# EAGLE library part ATMEGA165-MU (library Atmel)
8-bit AVR Microcontroller with 16K Bytes In-System Programmable Flash
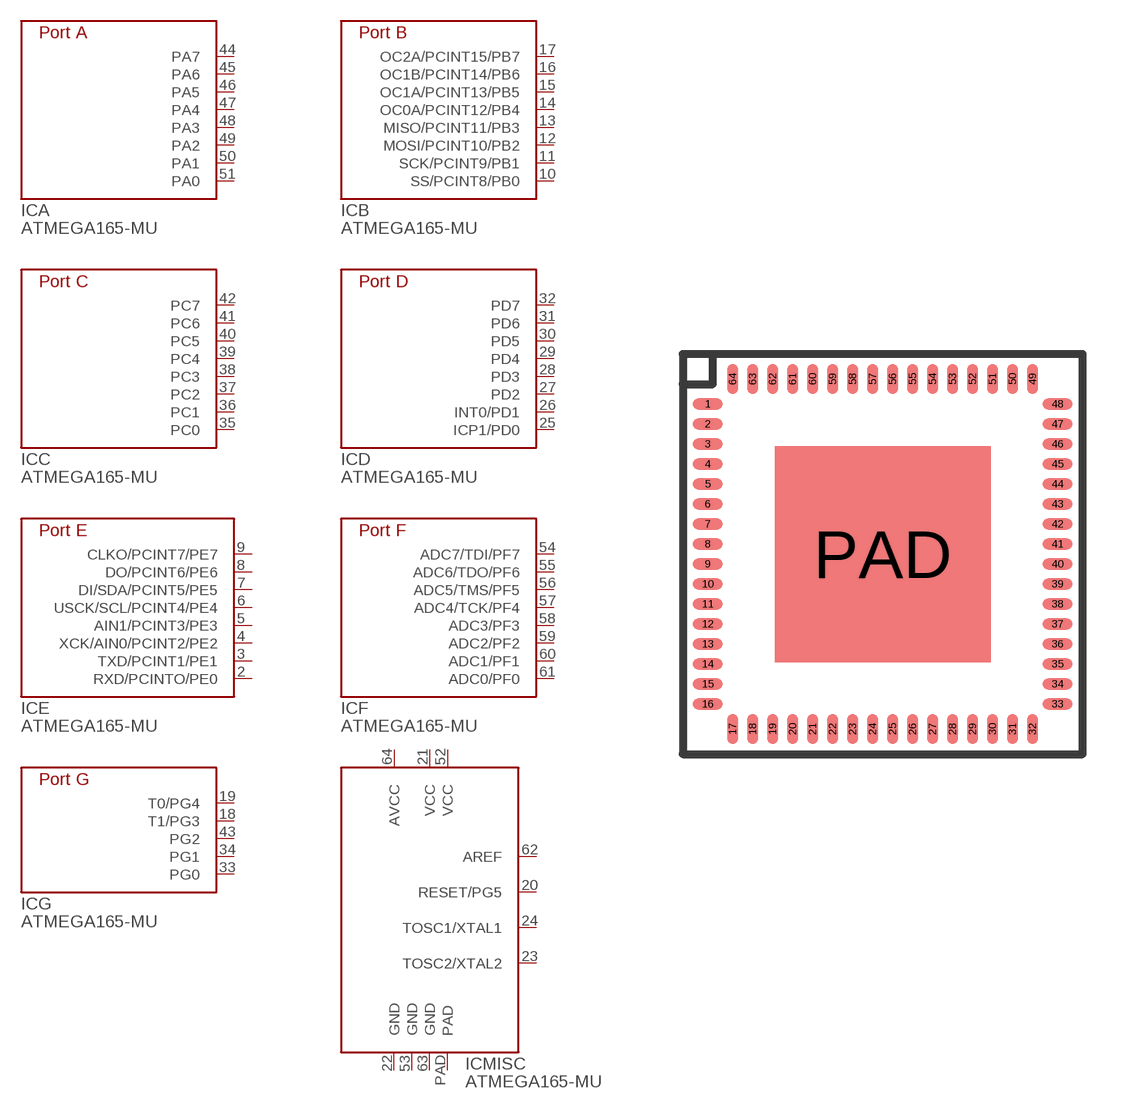
[diagram p13: symbol with the pads of MLF64-64M1; footprint MLF64-64M1]

Designator prefix IC; gates A=ATMEGA165-A B=ATMEGA165-B C=ATMEGA165-C D=ATMEGA165-D E=ATMEGA165-E F=ATMEGA165-F G=ATMEGA165-G MISC=ATMEGA165-MISC-PAD

## ATMEGA165-MU  [MLF64-64M1]
2  E:RXD/PCINTO/PE0
3  E:TXD/PCINT1/PE1
4  E:XCK/AIN0/PCINT2/PE2
5  E:AIN1/PCINT3/PE3
6  E:USCK/SCL/PCINT4/PE4
7  E:DI/SDA/PCINT5/PE5
8  E:DO/PCINT6/PE6
9  E:CLKO/PCINT7/PE7
10  B:SS/PCINT8/PB0
11  B:SCK/PCINT9/PB1
12  B:MOSI/PCINT10/PB2
13  B:MISO/PCINT11/PB3
14  B:OC0A/PCINT12/PB4
15  B:OC1A/PCINT13/PB5
16  B:OC1B/PCINT14/PB6
17  B:OC2A/PCINT15/PB7
18  G:T1/PG3
19  G:T0/PG4
20  MISC:RESET/PG5
21  MISC:VCC
22  MISC:GND
23  MISC:TOSC2/XTAL2
24  MISC:TOSC1/XTAL1
25  D:ICP1/PD0
26  D:INT0/PD1
27  D:PD2
28  D:PD3
29  D:PD4
30  D:PD5
31  D:PD6
32  D:PD7
33  G:PG0
34  G:PG1
35  C:PC0
36  C:PC1
37  C:PC2
38  C:PC3
39  C:PC4
40  C:PC5
41  C:PC6
42  C:PC7
43  G:PG2
44  A:PA7
45  A:PA6
46  A:PA5
47  A:PA4
48  A:PA3
49  A:PA2
50  A:PA1
51  A:PA0
52  MISC:VCC
53  MISC:GND
54  F:ADC7/TDI/PF7
55  F:ADC6/TDO/PF6
56  F:ADC5/TMS/PF5
57  F:ADC4/TCK/PF4
58  F:ADC3/PF3
59  F:ADC2/PF2
60  F:ADC1/PF1
61  F:ADC0/PF0
62  MISC:AREF
63  MISC:GND
64  MISC:AVCC
PAD  MISC:PAD

## Footprint MLF64-64M1 (pad centres in mm)
64M1, 64 pad, 9x9x1.0mm Body, Lead Pitch 0.50mm, 5.40mm exposed pad, MLF
smd 0.75 x 0.28: 1 -4.375,3.75; 2 -4.375,3.25; 3 -4.375,2.75; 4 -4.375,2.25; 5 -4.375,1.75; 6 -4.375,1.25; 7 -4.375,0.75; 8 -4.375,0.25; 9 -4.375,-0.25; 10 -4.375,-0.75; 11 -4.375,-1.25; 12 -4.375,-1.75; 13 -4.375,-2.25; 14 -4.375,-2.75; 15 -4.375,-3.25; 16 -4.375,-3.75; 33 4.375,-3.75; 34 4.375,-3.25; 35 4.375,-2.75; 36 4.375,-2.25; 37 4.375,-1.75; 38 4.375,-1.25; 39 4.375,-0.75; 40 4.375,-0.25; 41 4.375,0.25; 42 4.375,0.75; 43 4.375,1.25; 44 4.375,1.75; 45 4.375,2.25; 46 4.375,2.75; 47 4.375,3.25; 48 4.375,3.75
smd 0.28 x 0.75: 17 -3.75,-4.375; 18 -3.25,-4.375; 19 -2.75,-4.375; 20 -2.25,-4.375; 21 -1.75,-4.375; 22 -1.25,-4.375; 23 -0.75,-4.375; 24 -0.25,-4.375; 25 0.25,-4.375; 26 0.75,-4.375; 27 1.25,-4.375; 28 1.75,-4.375; 29 2.25,-4.375; 30 2.75,-4.375; 31 3.25,-4.375; 32 3.75,-4.375; 49 3.75,4.375; 50 3.25,4.375; 51 2.75,4.375; 52 2.25,4.375; 53 1.75,4.375; 54 1.25,4.375; 55 0.75,4.375; 56 0.25,4.375; 57 -0.25,4.375; 58 -0.75,4.375; 59 -1.25,4.375; 60 -1.75,4.375; 61 -2.25,4.375; 62 -2.75,4.375; 63 -3.25,4.375; 64 -3.75,4.375
smd 5.4 x 5.4: PAD 0,0